# Altium footprint library lib.PcbLib: 19 footprints (part 1 of 2)
Each footprint in its own frame and in the unit in brackets; x right, y up, seen from the top. Pads: shape width x height; smd on the part's side, far side on the other; paste and mask are expansions set on the pad; w line width, h text height; cw(c..) or ccw(c..) is an arc to the next point about the centre after c.
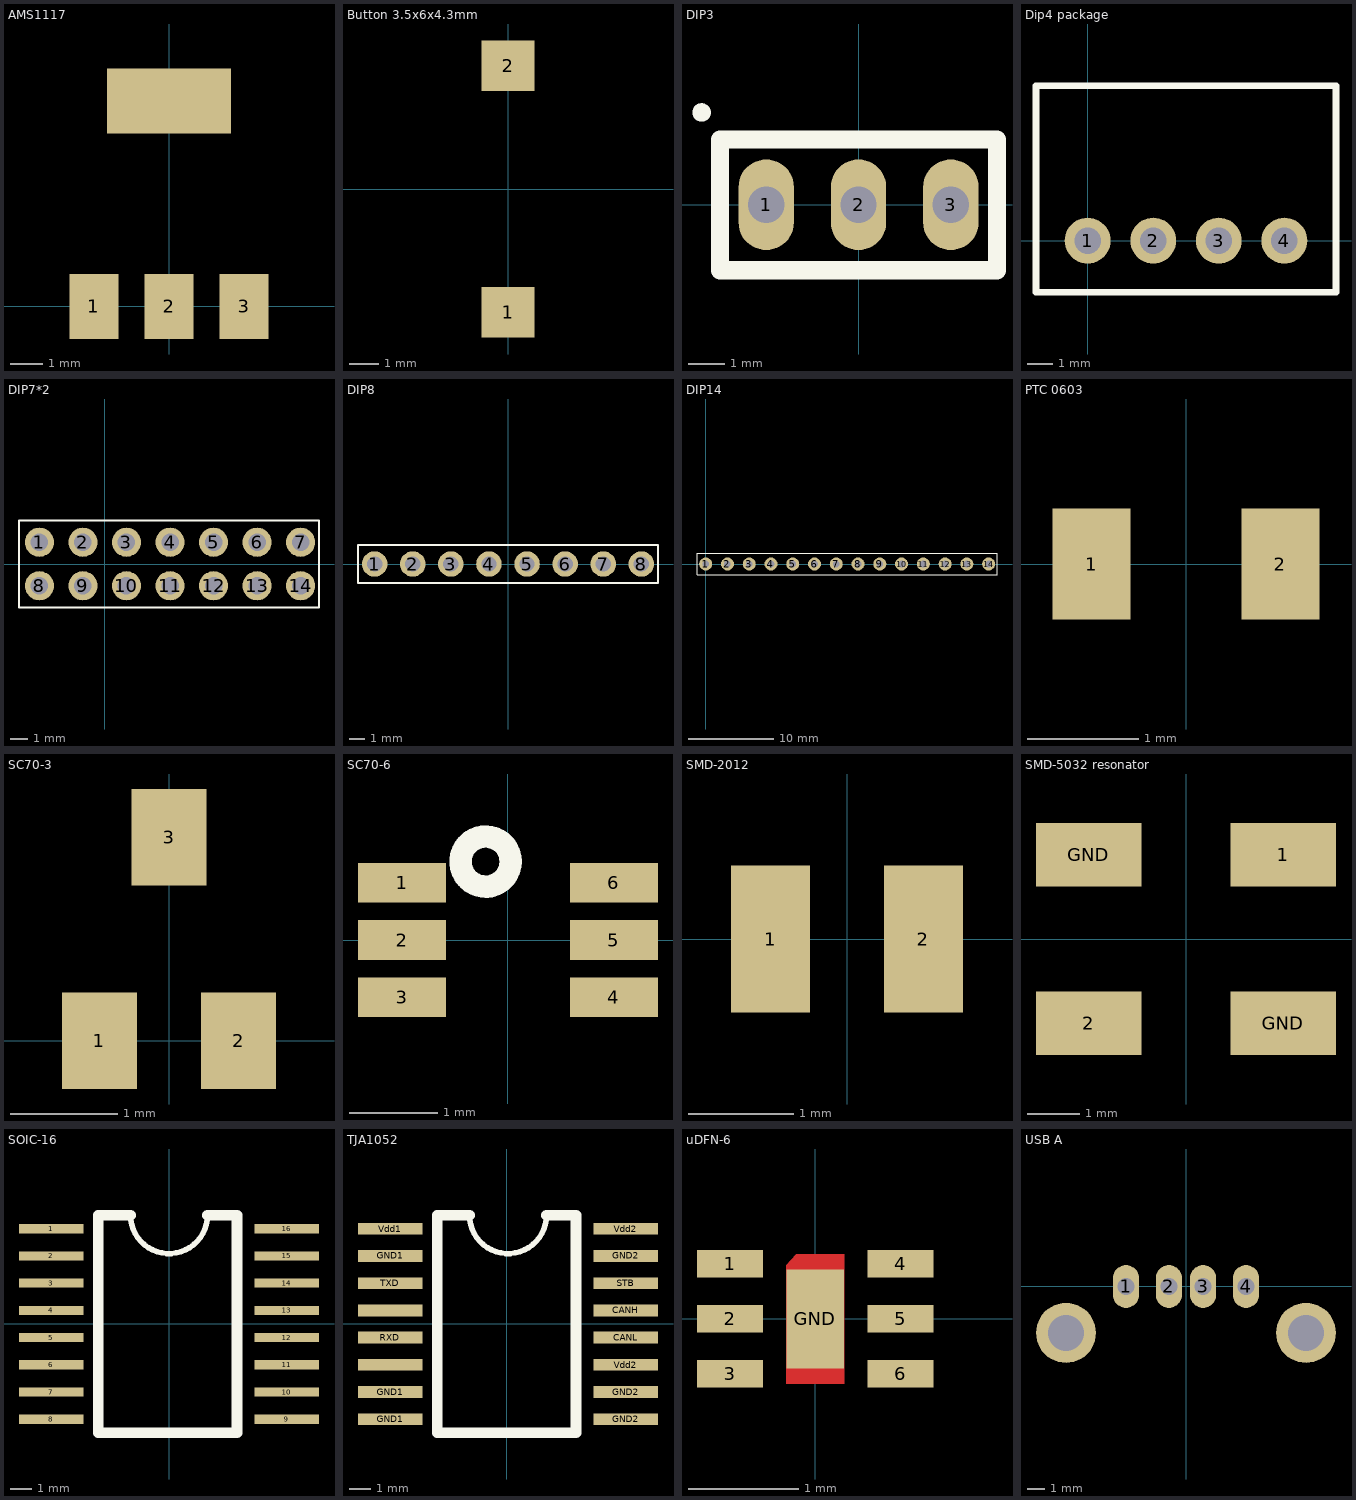
[diagram p0: the footprints below, top view; thin cyan lines are the x and y axes]

## AMS1117 [mm]
pads (4):
  rect 1.5x2 smd: 1(-2.3,0) 2(0,0) 3(2.3,0)
  rect 3.8x2 smd: ""(0,6.3)

## Button 3.5x6x4.3mm [mm]
pads (2):
  rect 1.8x1.7 smd: 1(0,-4.15) 2(0,4.15)

## DIP3 [mm]
pads (3):
  oval 1.524x2.5 hole 1: 1(-2.54,0) 2(0,0) 3(2.54,0)
Top Overlay:
  circle w0.254: c-4.318,2.54 r0.127
  lines w0.5: -3.81,-1.8 -3.81,1.8 3.81,1.8 3.81,-1.8 -3.81,-1.8

## Dip4 package [mil]
pads (4):
  round 70 hole 40: 1(0,0) 2(100,0) 3(200,0) 4(300,0)
Top Overlay:
  lines w10: -78.74,-78.74 -78.74,236.22 378.74,236.22 378.74,-78.74 -78.74,-78.74

## DIP7*2 [mm]
pads (14):
  round 1.7 hole 1.02: 1(-3.81,1.27) 2(-1.27,1.27) 3(1.27,1.27) 4(3.81,1.27) 5(6.35,1.27) 6(8.89,1.27) 7(11.43,1.27) 8(-3.81,-1.27) 9(-1.27,-1.27) 10(1.27,-1.27) 11(3.81,-1.27) 12(6.35,-1.27) 13(8.89,-1.27) 14(11.43,-1.27)
Top Overlay:
  lines w0.127: -5,-2.54 -5,2.54 12.5,2.54 12.5,-2.54 -5,-2.54

## DIP8 [mm]
pads (8):
  round 1.7 hole 1.02: 1(-8.89,0) 2(-6.35,0) 3(-3.81,0) 4(-1.27,0) 5(1.27,0) 6(3.81,0) 7(6.35,0) 8(8.89,0)
Top Overlay:
  lines w0.127: -10,-1.27 -10,1.27 10,1.27 10,-1.27 -10,-1.27

## DIP14 [mil]
pads (14):
  round 60 hole 30: 1(0,0) 2(100,0) 3(200,0) 4(300,0) 5(400,0) 6(500,0) 7(600,0) 8(700,0) 9(800,0) 10(900,0) 11(1000,0) 12(1100,0) 13(1200,0) 14(1300,0)
Top Overlay:
  lines w5: -40,-50 1338.58,-50 1338.58,50 -39.37,50 -39.37,-50

## PTC 0603 [mm]
pads (2):
  rect 0.7x1 smd: 1(-0.85,0) 2(0.85,0)

## SC70-3 [mm]
pads (3):
  rect 0.7x0.9 smd: 1(-0.65,0) 2(0.65,0) 3(0,1.9)

## SC70-6 [mm]
pads (6):
  rect 1x0.45 smd mask+0.102: 1(-1.2,0.65) 2(-1.2,0) 3(-1.2,-0.65) 4(1.2,-0.65) 5(1.2,0) 6(1.2,0.65)
Top Overlay:
  circle w0.254: c-0.254,0.889 r0.284

## SMD-2012 [mm]
pads (2):
  rect 0.75x1.4 smd: 1(-0.725,0) 2(0.725,0)

## SMD-5032 resonator [mm]
pads (4):
  rect 2x1.2 smd: 1(1.85,1.6) 2(-1.85,-1.6) GND(-1.85,1.6) GND(1.85,-1.6)

## SOIC-16 [mm]
pads (16):
  rect 3x0.425 smd: 1(-5.5,4.445) 2(-5.5,3.175) 3(-5.5,1.905) 4(-5.5,0.635) 5(-5.5,-0.635) 6(-5.5,-1.905) 7(-5.5,-3.175) 8(-5.5,-4.445) 9(5.5,-4.445) 10(5.5,-3.175) 11(5.5,-1.905) 12(5.5,-0.635) 13(5.5,0.635) 14(5.5,1.905) 15(5.5,3.175) 16(5.5,4.445)
Top Overlay:
  lines w0.254: -1.796,5.08 ccw(c0,5.08) 1.796,5.08
  lines w0.5: -1.796,5.08 -3.302,5.08 -3.302,-5.08 3.175,-5.08 3.175,5.08 1.796,5.08

## TJA1052 [mm]
pads (16):
  rect 3x0.55 smd: CANH(5.563,0.635) CANL(5.563,-0.635) GND1(-5.436,-4.445) GND1(-5.436,-3.175) GND1(-5.436,3.175) GND2(5.563,-4.445) GND2(5.563,-3.175) GND2(5.563,3.175) RXD(-5.436,-0.635) STB(5.563,1.905) TXD(-5.436,1.905) Vdd1(-5.436,4.445) Vdd2(5.563,-1.905) Vdd2(5.563,4.445) ""(-5.436,-1.905) ""(-5.436,0.635)
Top Overlay:
  lines w0.254: -1.733,5.08 ccw(c0.064,5.08) 1.86,5.08
  lines w0.5: -1.733,5.08 -3.238,5.08 -3.238,-5.08 3.238,-5.08 3.238,5.08 1.86,5.08

## uDFN-6 [mm]
pads (7):
  rect 0.6x0.25 smd mask+0.05: 1(-0.774,0.5) 2(-0.774,0) 3(-0.774,-0.5) 4(0.774,0.5) 5(0.774,0) 6(0.774,-0.5)
  rect 0.525x0.9 smd paste+0 mask+0.102: GND(0,0)
Top Layer:
  region: -0.262,-0.587 -0.262,0.487 -0.172,0.587 0.262,0.587 0.262,-0.587
  pour cut-out: 0.127,0.635
Top Layer keep-out:
  region: 1.651,0
Top Solder:
  region: 0.762,0.889

## USB A [mm]
pads (6):
  oval 1.524x2.5 hole 1: 1(-3.5,0) 2(-1,0) 3(1,0) 4(3.5,0)
  round 3.5 hole 2.1: ""(-7,-2.71) ""(7,-2.71)